# EAGLE library part AWR2944ABGALTRQ1 (library mmWAVE)
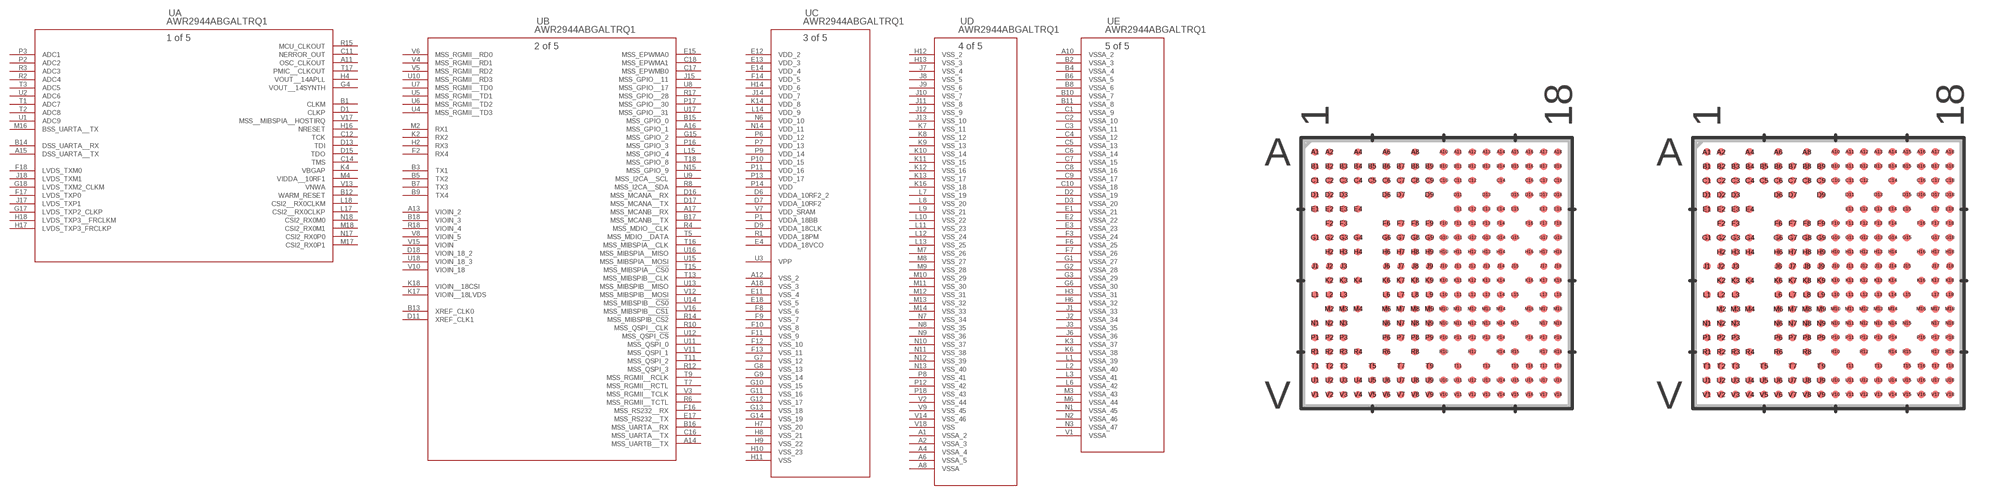
[diagram p0: symbol with the pads of FCBGA266_ALT_TEX; footprints FCBGA266_ALT_TEX, FCBGA266_ALT_TEX-M]

Designator prefix U; gates A=AWR2944ABGALTRQ1 B=AWR2944ABGALTRQ1_A C=AWR2944ABGALTRQ1_B D=AWR2944ABGALTRQ1_C E=AWR2944ABGALTRQ1_D

## AWR2944ABGALTRQ1 (COPYRIGHT: Copyright (C) 2025 Ultra Librarian. All rights reserved.; MANUFACTURER_PART_NUMBER: AWR2944ABGALTRQ1; MFR_NAME: Texas Instruments)  [FCBGA266_ALT_TEX]
A1  D:VSSA_2  pas
A2  D:VSSA_3  pas
A4  D:VSSA_4  pas
A6  D:VSSA_5  pas
A8  D:VSSA  pas
A10  E:VSSA_2  pas
A11  A:OSC_CLKOUT  out
A12  C:VSS_2  pas
A13  B:VIOIN_2  pas
A14  B:MSS_UARTB__TX  pas
A15  A:DSS_UARTA__TX  pas
A16  B:MSS_GPIO_1
A17  B:MSS_MCANB__RX  pas
A18  C:VSS_3  pas
B1  A:CLKM  pas
B2  E:VSSA_3  pas
B3  B:TX1
B4  E:VSSA_4  pas
B5  B:TX2
B6  E:VSSA_5  pas
B7  B:TX3
B8  E:VSSA_6  pas
B9  B:TX4
B10  E:VSSA_7  pas
B11  E:VSSA_8  pas
B12  A:WARM_RESET  pas
B13  B:XREF_CLK0
B14  A:DSS_UARTA__RX  pas
B15  B:MSS_GPIO_0
B16  B:MSS_UARTA__RX  pas
B17  B:MSS_MCANB__TX  pas
B18  B:VIOIN_3  pas
C1  E:VSSA_9  pas
C2  E:VSSA_10  pas
C3  E:VSSA_11  pas
C4  E:VSSA_12  pas
C5  E:VSSA_13  pas
C6  E:VSSA_14  pas
C7  E:VSSA_15  pas
C8  E:VSSA_16  pas
C9  E:VSSA_17  pas
C10  E:VSSA_18  pas
C11  A:NERROR_OUT  out
C12  A:TCK  pas
C14  A:TMS  pas
C16  B:MSS_UARTA__TX  pas
C17  B:MSS_EPWMB0  pas
C18  B:MSS_EPWMA1
D1  A:CLKP  pas
D2  E:VSSA_19  pas
D3  E:VSSA_20  pas
D6  C:VDDA_10RF2_2  pwr
D7  C:VDDA_10RF2  pwr
D9  C:VDDA_18CLK  pwr
D11  B:XREF_CLK1  pas
D13  A:TDI  pas
D15  A:TDO  pas
D16  B:MSS_MCANA__RX  pas
D17  B:MSS_MCANA__TX  pas
D18  B:VIOIN_18_2
E1  E:VSSA_21  pas
E2  E:VSSA_22  pas
E3  E:VSSA_23  pas
E4  C:VDDA_18VCO  pwr
E11  C:VSS_4  pas
E12  C:VDD_2  pwr
E13  C:VDD_3  pwr
E14  C:VDD_4  pwr
E15  B:MSS_EPWMA0
E17  B:MSS_RS232__TX
E18  C:VSS_5  pas
F2  B:RX4
F3  E:VSSA_24  pas
F6  E:VSSA_25  pas
F7  E:VSSA_26  pas
F8  C:VSS_6  pas
F9  C:VSS_7  pas
F10  C:VSS_8  pas
F11  C:VSS_9  pas
F12  C:VSS_10  pas
F13  C:VSS_11  pas
F14  C:VDD_5  pwr
F16  B:MSS_RS232__RX
F17  A:LVDS_TXP0
F18  A:LVDS_TXM0
G1  E:VSSA_27  pas
G2  E:VSSA_28  pas
G3  E:VSSA_29  pas
G4  A:VOUT__14SYNTH  out
G6  E:VSSA_30  pas
G7  C:VSS_12  pas
G8  C:VSS_13  pas
G9  C:VSS_14  pas
G10  C:VSS_15  pas
G11  C:VSS_16  pas
G12  C:VSS_17  pas
G13  C:VSS_18  pas
G14  C:VSS_19  pas
G15  B:MSS_GPIO_2
G17  A:LVDS_TXP2_CLKP
G18  A:LVDS_TXM2_CLKM
H2  B:RX3
H3  E:VSSA_31  pas
H4  A:VOUT__14APLL  out
H6  E:VSSA_32  pas
H7  C:VSS_20  pas
H8  C:VSS_21  pas
H9  C:VSS_22  pas
H10  C:VSS_23  pas
H11  C:VSS  pas
H12  D:VSS_2  pas
H13  D:VSS_3  pas
H14  C:VDD_6  pwr
H16  A:NRESET  pas
H17  A:LVDS_TXP3_FRCLKP
H18  A:LVDS_TXP3__FRCLKM
J1  E:VSSA_33  pas
J2  E:VSSA_34  pas
J3  E:VSSA_35  pas
J6  E:VSSA_36  pas
J7  D:VSS_4  pas
J8  D:VSS_5  pas
J9  D:VSS_6  pas
J10  D:VSS_7  pas
J11  D:VSS_8  pas
J12  D:VSS_9  pas
J13  D:VSS_10  pas
J14  C:VDD_7  pwr
J15  B:MSS_GPIO__11
J17  A:LVDS_TXP1
J18  A:LVDS_TXM1
K2  B:RX2
K3  E:VSSA_37  pas
K4  A:VBGAP  pas
K6  E:VSSA_38  pas
K7  D:VSS_11  pas
K8  D:VSS_12  pas
K9  D:VSS_13  pas
K10  D:VSS_14  pas
K11  D:VSS_15  pas
K12  D:VSS_16  pas
K13  D:VSS_17  pas
K14  C:VDD_8  pwr
K16  D:VSS_18  pas
K17  B:VIOIN__18LVDS
K18  B:VIOIN__18CSI
L1  E:VSSA_39  pas
L2  E:VSSA_40  pas
L3  E:VSSA_41  pas
L6  E:VSSA_42  pas
L7  D:VSS_19  pas
L8  D:VSS_20  pas
L9  D:VSS_21  pas
L10  D:VSS_22  pas
L11  D:VSS_23  pas
L12  D:VSS_24  pas
L13  D:VSS_25  pas
L14  C:VDD_9  pwr
L15  B:MSS_GPIO_4
L17  A:CSI2__RX0CLKP
L18  A:CSI2__RX0CLKM
M2  B:RX1
M3  E:VSSA_43  pas
M4  A:VIDDA__10RF1  pas
M6  E:VSSA_44  pas
M7  D:VSS_26  pas
M8  D:VSS_27  pas
M9  D:VSS_28  pas
M10  D:VSS_29  pas
M11  D:VSS_30  pas
M12  D:VSS_31  pas
M13  D:VSS_32  pas
M14  D:VSS_33  pas
M16  A:BSS_UARTA__TX  pas
M17  A:CSI2_RX0P1
M18  A:CSI2_RX0M1
N1  E:VSSA_45  pas
N2  E:VSSA_46  pas
N3  E:VSSA_47  pas
N6  C:VDD_10  pwr
N7  D:VSS_34  pas
N8  D:VSS_35  pas
N9  D:VSS_36  pas
N10  D:VSS_37  pas
N11  D:VSS_38  pas
N12  D:VSS_39  pas
N13  D:VSS_40  pas
N14  C:VDD_11  pwr
N15  B:MSS_GPIO_9
N17  A:CSI2_RX0P0
N18  A:CSI2_RX0M0
P1  C:VDDA_18BB  pwr
P2  A:ADC2
P3  A:ADC1
P6  C:VDD_12  pwr
P7  C:VDD_13  pwr
P8  D:VSS_41  pas
P9  C:VDD_14  pwr
P10  C:VDD_15  pwr
P11  C:VDD_16  pwr
P12  D:VSS_42  pas
P13  C:VDD_17  pwr
P14  C:VDD  pwr
P16  B:MSS_GPIO_3
P17  B:MSS_GPIO__30
P18  D:VSS_43  pas
R1  C:VDDA_18PM  pwr
R2  A:ADC4
R3  A:ADC3
R4  B:MSS_MDIO__CLK  pas
R6  B:MSS_RGMII__TCTL  pas
R8  B:MSS_I2CA__SDA
R10  B:MSS_QSPI__CLK  pas
R12  B:MSS_QSPI_3
R14  B:MSS_MIBSPIB_!CS2  pas
R15  A:MCU_CLKOUT  out
R17  B:MSS_GPIO__28
R18  B:VIOIN_4  pas
T1  A:ADC7
T2  A:ADC8
T3  A:ADC5
T5  B:MSS_MDIO__DATA  pas
T7  B:MSS_RGMII__RCTL  pas
T9  B:MSS_RGMII__RCLK  pas
T11  B:MSS_QSPI_2
T13  B:MSS_MIBSPIB__CLK  pas
T15  B:MSS_MIBSPIA__!CS0  pas
T16  B:MSS_MIBSPIA__CLK  pas
T17  A:PMIC__CLKOUT  out
T18  B:MSS_GPIO_8
U1  A:ADC9
U2  A:ADC6
U3  C:VPP  pwr
U4  B:MSS_RGMII__TD3
U5  B:MSS_RGMII__TD1
U6  B:MSS_RGMII__TD2
U7  B:MSS_RGMII__TD0
U8  B:MSS_GPIO__17
U9  B:MSS_I2CA__SCL
U10  B:MSS_RGMII__RD3
U11  B:MSS_QSPI_0
U12  B:MSS_QSPI_!CS  pas
U13  B:MSS_MIBSPIB__MISO  pas
U14  B:MSS_MIBSPIB__!CS0
U15  B:MSS_MIBSPIA__MOSI  pas
U16  B:MSS_MIBSPIA__MISO  pas
U17  B:MSS_GPIO__31
U18  B:VIOIN_18_3
V1  E:VSSA  pas
V2  D:VSS_44  pas
V3  B:MSS_RGMII__TCLK  pas
V4  B:MSS_RGMII__RD1
V5  B:MSS_RGMII__RD2
V6  B:MSS_RGMII__RD0
V7  C:VDD_SRAM  pwr
V8  B:VIOIN_5  pas
V9  D:VSS_45  pas
V10  B:VIOIN_18
V11  B:MSS_QSPI_1
V12  B:MSS_MIBSPIB__MOSI  pas
V13  A:VNWA  pas
V14  D:VSS_46  pas
V15  B:VIOIN  pas
V16  B:MSS_MIBSPIB__!CS1
V17  A:MSS__MIBSPIA__HOSTIRQ  pas
V18  D:VSS  pas

## AWR2944ABGALTRQ1FCBGA266_ALT_TEX-M (COPYRIGHT: Copyright (C) 2025 Ultra Librarian. All rights reserved.; MANUFACTURER_PART_NUMBER: AWR2944ABGALTRQ1; MFR_NAME: Texas Instruments)  [FCBGA266_ALT_TEX-M]
Pads as for FCBGA266_ALT_TEX

## AWR2944ABGALTRQ1FCBGA266_ALT_TEX-L (COPYRIGHT: Copyright (C) 2025 Ultra Librarian. All rights reserved.; MANUFACTURER_PART_NUMBER: AWR2944ABGALTRQ1; MFR_NAME: Texas Instruments)  [FCBGA266_ALT_TEX-L]
Pads as for FCBGA266_ALT_TEX

## Footprint FCBGA266_ALT_TEX (pad centres in mm)
smd 0.325 x 0.325: A1 -5.525,5.525; A2 -4.875,5.525; A4 -3.575,5.525; A6 -2.275,5.525; A8 -0.975,5.525; A10 0.325,5.525; A11 0.975,5.525; A12 1.625,5.525; A13 2.275,5.525; A14 2.925,5.525; A15 3.575,5.525; A16 4.225,5.525; A17 4.875,5.525; A18 5.525,5.525; B1 -5.525,4.875; B2 -4.875,4.875; B3 -4.225,4.875; B4 -3.575,4.875; B5 -2.925,4.875; B6 -2.275,4.875; B7 -1.625,4.875; B8 -0.975,4.875; B9 -0.325,4.875; B10 0.325,4.875; B11 0.975,4.875; B12 1.625,4.875; B13 2.275,4.875; B14 2.925,4.875; B15 3.575,4.875; B16 4.225,4.875; B17 4.875,4.875; B18 5.525,4.875; C1 -5.525,4.225; C2 -4.875,4.225; C3 -4.225,4.225; C4 -3.575,4.225; C5 -2.925,4.225; C6 -2.275,4.225; C7 -1.625,4.225; C8 -0.975,4.225; C9 -0.325,4.225; C10 0.325,4.225; C11 0.975,4.225; C12 1.625,4.225; C14 2.925,4.225; C16 4.225,4.225; C17 4.875,4.225; C18 5.525,4.225; D1 -5.525,3.575; D2 -4.875,3.575; D3 -4.225,3.575; D6 -2.275,3.575; D7 -1.625,3.575; D9 -0.325,3.575; D11 0.975,3.575; D13 2.275,3.575; D15 3.575,3.575; D16 4.225,3.575; D17 4.875,3.575; D18 5.525,3.575; E1 -5.525,2.925; E2 -4.875,2.925; E3 -4.225,2.925; E4 -3.575,2.925; E11 0.975,2.925; E12 1.625,2.925; E13 2.275,2.925; E14 2.925,2.925; E15 3.575,2.925; E17 4.875,2.925; E18 5.525,2.925; F2 -4.875,2.275; F3 -4.225,2.275; F6 -2.275,2.275; F7 -1.625,2.275; F8 -0.975,2.275; F9 -0.325,2.275; F10 0.325,2.275; F11 0.975,2.275; F12 1.625,2.275; F13 2.275,2.275; F14 2.925,2.275; F16 4.225,2.275; F17 4.875,2.275; F18 5.525,2.275; G1 -5.525,1.625; G2 -4.875,1.625; G3 -4.225,1.625; G4 -3.575,1.625; G6 -2.275,1.625; G7 -1.625,1.625; G8 -0.975,1.625; G9 -0.325,1.625; G10 0.325,1.625; G11 0.975,1.625; G12 1.625,1.625; G13 2.275,1.625; G14 2.925,1.625; G15 3.575,1.625; G17 4.875,1.625; G18 5.525,1.625; H2 -4.875,0.975; H3 -4.225,0.975; H4 -3.575,0.975; H6 -2.275,0.975; H7 -1.625,0.975; H8 -0.975,0.975; H9 -0.325,0.975; H10 0.325,0.975; H11 0.975,0.975; H12 1.625,0.975; H13 2.275,0.975; H14 2.925,0.975; H16 4.225,0.975; H17 4.875,0.975; H18 5.525,0.975; J1 -5.525,0.325; J2 -4.875,0.325; J3 -4.225,0.325; J6 -2.275,0.325; J7 -1.625,0.325; J8 -0.975,0.325; J9 -0.325,0.325; J10 0.325,0.325; J11 0.975,0.325; J12 1.625,0.325; J13 2.275,0.325; J14 2.925,0.325; J15 3.575,0.325; J17 4.875,0.325; J18 5.525,0.325; K2 -4.875,-0.325; K3 -4.225,-0.325; K4 -3.575,-0.325; K6 -2.275,-0.325; K7 -1.625,-0.325; K8 -0.975,-0.325; K9 -0.325,-0.325; K10 0.325,-0.325; K11 0.975,-0.325; K12 1.625,-0.325; K13 2.275,-0.325; K14 2.925,-0.325; K16 4.225,-0.325; K17 4.875,-0.325; K18 5.525,-0.325; L1 -5.525,-0.975; L2 -4.875,-0.975; L3 -4.225,-0.975; L6 -2.275,-0.975; L7 -1.625,-0.975; L8 -0.975,-0.975; L9 -0.325,-0.975; L10 0.325,-0.975; L11 0.975,-0.975; L12 1.625,-0.975; L13 2.275,-0.975; L14 2.925,-0.975; L15 3.575,-0.975; L17 4.875,-0.975; L18 5.525,-0.975; M2 -4.875,-1.625; M3 -4.225,-1.625; M4 -3.575,-1.625; M6 -2.275,-1.625; M7 -1.625,-1.625; M8 -0.975,-1.625; M9 -0.325,-1.625; M10 0.325,-1.625; M11 0.975,-1.625; M12 1.625,-1.625; M13 2.275,-1.625; M14 2.925,-1.625; M16 4.225,-1.625; M17 4.875,-1.625; M18 5.525,-1.625; N1 -5.525,-2.275; N2 -4.875,-2.275; N3 -4.225,-2.275; N6 -2.275,-2.275; N7 -1.625,-2.275; N8 -0.975,-2.275; N9 -0.325,-2.275; N10 0.325,-2.275; N11 0.975,-2.275; N12 1.625,-2.275; N13 2.275,-2.275; N14 2.925,-2.275; N15 3.575,-2.275; N17 4.875,-2.275; N18 5.525,-2.275; P1 -5.525,-2.925; P2 -4.875,-2.925; P3 -4.225,-2.925; P6 -2.275,-2.925; P7 -1.625,-2.925; P8 -0.975,-2.925; P9 -0.325,-2.925; P10 0.325,-2.925; P11 0.975,-2.925; P12 1.625,-2.925; P13 2.275,-2.925; P14 2.925,-2.925; P16 4.225,-2.925; P17 4.875,-2.925; P18 5.525,-2.925; R1 -5.525,-3.575; R2 -4.875,-3.575; R3 -4.225,-3.575; R4 -3.575,-3.575; R6 -2.275,-3.575; R8 -0.975,-3.575; R10 0.325,-3.575; R12 1.625,-3.575; R14 2.925,-3.575; R15 3.575,-3.575; R17 4.875,-3.575; R18 5.525,-3.575; T1 -5.525,-4.225; T2 -4.875,-4.225; T3 -4.225,-4.225; T5 -2.925,-4.225; T7 -1.625,-4.225; T9 -0.325,-4.225; T11 0.975,-4.225; T13 2.275,-4.225; T15 3.575,-4.225; T16 4.225,-4.225; T17 4.875,-4.225; T18 5.525,-4.225; U1 -5.525,-4.875; U2 -4.875,-4.875; U3 -4.225,-4.875; U4 -3.575,-4.875; U5 -2.925,-4.875; U6 -2.275,-4.875; U7 -1.625,-4.875; U8 -0.975,-4.875; U9 -0.325,-4.875; U10 0.325,-4.875; U11 0.975,-4.875; U12 1.625,-4.875; U13 2.275,-4.875; U14 2.925,-4.875; U15 3.575,-4.875; U16 4.225,-4.875; U17 4.875,-4.875; U18 5.525,-4.875; V1 -5.525,-5.525; V2 -4.875,-5.525; V3 -4.225,-5.525; V4 -3.575,-5.525; V5 -2.925,-5.525; V6 -2.275,-5.525; V7 -1.625,-5.525; V8 -0.975,-5.525; V9 -0.325,-5.525; V10 0.325,-5.525; V11 0.975,-5.525; V12 1.625,-5.525; V13 2.275,-5.525; V14 2.925,-5.525; V15 3.575,-5.525; V16 4.225,-5.525; V17 4.875,-5.525; V18 5.525,-5.525

## Footprint FCBGA266_ALT_TEX-M (pad centres in mm)
smd 0.345 x 0.345: A1 -5.525,5.525; A2 -4.875,5.525; A4 -3.575,5.525; A6 -2.275,5.525; A8 -0.975,5.525; A10 0.325,5.525; A11 0.975,5.525; A12 1.625,5.525; A13 2.275,5.525; A14 2.925,5.525; A15 3.575,5.525; A16 4.225,5.525; A17 4.875,5.525; A18 5.525,5.525; B1 -5.525,4.875; B2 -4.875,4.875; B3 -4.225,4.875; B4 -3.575,4.875; B5 -2.925,4.875; B6 -2.275,4.875; B7 -1.625,4.875; B8 -0.975,4.875; B9 -0.325,4.875; B10 0.325,4.875; B11 0.975,4.875; B12 1.625,4.875; B13 2.275,4.875; B14 2.925,4.875; B15 3.575,4.875; B16 4.225,4.875; B17 4.875,4.875; B18 5.525,4.875; C1 -5.525,4.225; C2 -4.875,4.225; C3 -4.225,4.225; C4 -3.575,4.225; C5 -2.925,4.225; C6 -2.275,4.225; C7 -1.625,4.225; C8 -0.975,4.225; C9 -0.325,4.225; C10 0.325,4.225; C11 0.975,4.225; C12 1.625,4.225; C14 2.925,4.225; C16 4.225,4.225; C17 4.875,4.225; C18 5.525,4.225; D1 -5.525,3.575; D2 -4.875,3.575; D3 -4.225,3.575; D6 -2.275,3.575; D7 -1.625,3.575; D9 -0.325,3.575; D11 0.975,3.575; D13 2.275,3.575; D15 3.575,3.575; D16 4.225,3.575; D17 4.875,3.575; D18 5.525,3.575; E1 -5.525,2.925; E2 -4.875,2.925; E3 -4.225,2.925; E4 -3.575,2.925; E11 0.975,2.925; E12 1.625,2.925; E13 2.275,2.925; E14 2.925,2.925; E15 3.575,2.925; E17 4.875,2.925; E18 5.525,2.925; F2 -4.875,2.275; F3 -4.225,2.275; F6 -2.275,2.275; F7 -1.625,2.275; F8 -0.975,2.275; F9 -0.325,2.275; F10 0.325,2.275; F11 0.975,2.275; F12 1.625,2.275; F13 2.275,2.275; F14 2.925,2.275; F16 4.225,2.275; F17 4.875,2.275; F18 5.525,2.275; G1 -5.525,1.625; G2 -4.875,1.625; G3 -4.225,1.625; G4 -3.575,1.625; G6 -2.275,1.625; G7 -1.625,1.625; G8 -0.975,1.625; G9 -0.325,1.625; G10 0.325,1.625; G11 0.975,1.625; G12 1.625,1.625; G13 2.275,1.625; G14 2.925,1.625; G15 3.575,1.625; G17 4.875,1.625; G18 5.525,1.625; H2 -4.875,0.975; H3 -4.225,0.975; H4 -3.575,0.975; H6 -2.275,0.975; H7 -1.625,0.975; H8 -0.975,0.975; H9 -0.325,0.975; H10 0.325,0.975; H11 0.975,0.975; H12 1.625,0.975; H13 2.275,0.975; H14 2.925,0.975; H16 4.225,0.975; H17 4.875,0.975; H18 5.525,0.975; J1 -5.525,0.325; J2 -4.875,0.325; J3 -4.225,0.325; J6 -2.275,0.325; J7 -1.625,0.325; J8 -0.975,0.325; J9 -0.325,0.325; J10 0.325,0.325; J11 0.975,0.325; J12 1.625,0.325; J13 2.275,0.325; J14 2.925,0.325; J15 3.575,0.325; J17 4.875,0.325; J18 5.525,0.325; K2 -4.875,-0.325; K3 -4.225,-0.325; K4 -3.575,-0.325; K6 -2.275,-0.325; K7 -1.625,-0.325; K8 -0.975,-0.325; K9 -0.325,-0.325; K10 0.325,-0.325; K11 0.975,-0.325; K12 1.625,-0.325; K13 2.275,-0.325; K14 2.925,-0.325; K16 4.225,-0.325; K17 4.875,-0.325; K18 5.525,-0.325; L1 -5.525,-0.975; L2 -4.875,-0.975; L3 -4.225,-0.975; L6 -2.275,-0.975; L7 -1.625,-0.975; L8 -0.975,-0.975; L9 -0.325,-0.975; L10 0.325,-0.975; L11 0.975,-0.975; L12 1.625,-0.975; L13 2.275,-0.975; L14 2.925,-0.975; L15 3.575,-0.975; L17 4.875,-0.975; L18 5.525,-0.975; M2 -4.875,-1.625; M3 -4.225,-1.625; M4 -3.575,-1.625; M6 -2.275,-1.625; M7 -1.625,-1.625; M8 -0.975,-1.625; M9 -0.325,-1.625; M10 0.325,-1.625; M11 0.975,-1.625; M12 1.625,-1.625; M13 2.275,-1.625; M14 2.925,-1.625; M16 4.225,-1.625; M17 4.875,-1.625; M18 5.525,-1.625; N1 -5.525,-2.275; N2 -4.875,-2.275; N3 -4.225,-2.275; N6 -2.275,-2.275; N7 -1.625,-2.275; N8 -0.975,-2.275; N9 -0.325,-2.275; N10 0.325,-2.275; N11 0.975,-2.275; N12 1.625,-2.275; N13 2.275,-2.275; N14 2.925,-2.275; N15 3.575,-2.275; N17 4.875,-2.275; N18 5.525,-2.275; P1 -5.525,-2.925; P2 -4.875,-2.925; P3 -4.225,-2.925; P6 -2.275,-2.925; P7 -1.625,-2.925; P8 -0.975,-2.925; P9 -0.325,-2.925; P10 0.325,-2.925; P11 0.975,-2.925; P12 1.625,-2.925; P13 2.275,-2.925; P14 2.925,-2.925; P16 4.225,-2.925; P17 4.875,-2.925; P18 5.525,-2.925; R1 -5.525,-3.575; R2 -4.875,-3.575; R3 -4.225,-3.575; R4 -3.575,-3.575; R6 -2.275,-3.575; R8 -0.975,-3.575; R10 0.325,-3.575; R12 1.625,-3.575; R14 2.925,-3.575; R15 3.575,-3.575; R17 4.875,-3.575; R18 5.525,-3.575; T1 -5.525,-4.225; T2 -4.875,-4.225; T3 -4.225,-4.225; T5 -2.925,-4.225; T7 -1.625,-4.225; T9 -0.325,-4.225; T11 0.975,-4.225; T13 2.275,-4.225; T15 3.575,-4.225; T16 4.225,-4.225; T17 4.875,-4.225; T18 5.525,-4.225; U1 -5.525,-4.875; U2 -4.875,-4.875; U3 -4.225,-4.875; U4 -3.575,-4.875; U5 -2.925,-4.875; U6 -2.275,-4.875; U7 -1.625,-4.875; U8 -0.975,-4.875; U9 -0.325,-4.875; U10 0.325,-4.875; U11 0.975,-4.875; U12 1.625,-4.875; U13 2.275,-4.875; U14 2.925,-4.875; U15 3.575,-4.875; U16 4.225,-4.875; U17 4.875,-4.875; U18 5.525,-4.875; V1 -5.525,-5.525; V2 -4.875,-5.525; V3 -4.225,-5.525; V4 -3.575,-5.525; V5 -2.925,-5.525; V6 -2.275,-5.525; V7 -1.625,-5.525; V8 -0.975,-5.525; V9 -0.325,-5.525; V10 0.325,-5.525; V11 0.975,-5.525; V12 1.625,-5.525; V13 2.275,-5.525; V14 2.925,-5.525; V15 3.575,-5.525; V16 4.225,-5.525; V17 4.875,-5.525; V18 5.525,-5.525

## Footprint FCBGA266_ALT_TEX-L (pad centres in mm)
smd 0.305 x 0.305: A1 -5.525,5.525; A2 -4.875,5.525; A4 -3.575,5.525; A6 -2.275,5.525; A8 -0.975,5.525; A10 0.325,5.525; A11 0.975,5.525; A12 1.625,5.525; A13 2.275,5.525; A14 2.925,5.525; A15 3.575,5.525; A16 4.225,5.525; A17 4.875,5.525; A18 5.525,5.525; B1 -5.525,4.875; B2 -4.875,4.875; B3 -4.225,4.875; B4 -3.575,4.875; B5 -2.925,4.875; B6 -2.275,4.875; B7 -1.625,4.875; B8 -0.975,4.875; B9 -0.325,4.875; B10 0.325,4.875; B11 0.975,4.875; B12 1.625,4.875; B13 2.275,4.875; B14 2.925,4.875; B15 3.575,4.875; B16 4.225,4.875; B17 4.875,4.875; B18 5.525,4.875; C1 -5.525,4.225; C2 -4.875,4.225; C3 -4.225,4.225; C4 -3.575,4.225; C5 -2.925,4.225; C6 -2.275,4.225; C7 -1.625,4.225; C8 -0.975,4.225; C9 -0.325,4.225; C10 0.325,4.225; C11 0.975,4.225; C12 1.625,4.225; C14 2.925,4.225; C16 4.225,4.225; C17 4.875,4.225; C18 5.525,4.225; D1 -5.525,3.575; D2 -4.875,3.575; D3 -4.225,3.575; D6 -2.275,3.575; D7 -1.625,3.575; D9 -0.325,3.575; D11 0.975,3.575; D13 2.275,3.575; D15 3.575,3.575; D16 4.225,3.575; D17 4.875,3.575; D18 5.525,3.575; E1 -5.525,2.925; E2 -4.875,2.925; E3 -4.225,2.925; E4 -3.575,2.925; E11 0.975,2.925; E12 1.625,2.925; E13 2.275,2.925; E14 2.925,2.925; E15 3.575,2.925; E17 4.875,2.925; E18 5.525,2.925; F2 -4.875,2.275; F3 -4.225,2.275; F6 -2.275,2.275; F7 -1.625,2.275; F8 -0.975,2.275; F9 -0.325,2.275; F10 0.325,2.275; F11 0.975,2.275; F12 1.625,2.275; F13 2.275,2.275; F14 2.925,2.275; F16 4.225,2.275; F17 4.875,2.275; F18 5.525,2.275; G1 -5.525,1.625; G2 -4.875,1.625; G3 -4.225,1.625; G4 -3.575,1.625; G6 -2.275,1.625; G7 -1.625,1.625; G8 -0.975,1.625; G9 -0.325,1.625; G10 0.325,1.625; G11 0.975,1.625; G12 1.625,1.625; G13 2.275,1.625; G14 2.925,1.625; G15 3.575,1.625; G17 4.875,1.625; G18 5.525,1.625; H2 -4.875,0.975; H3 -4.225,0.975; H4 -3.575,0.975; H6 -2.275,0.975; H7 -1.625,0.975; H8 -0.975,0.975; H9 -0.325,0.975; H10 0.325,0.975; H11 0.975,0.975; H12 1.625,0.975; H13 2.275,0.975; H14 2.925,0.975; H16 4.225,0.975; H17 4.875,0.975; H18 5.525,0.975; J1 -5.525,0.325; J2 -4.875,0.325; J3 -4.225,0.325; J6 -2.275,0.325; J7 -1.625,0.325; J8 -0.975,0.325; J9 -0.325,0.325; J10 0.325,0.325; J11 0.975,0.325; J12 1.625,0.325; J13 2.275,0.325; J14 2.925,0.325; J15 3.575,0.325; J17 4.875,0.325; J18 5.525,0.325; K2 -4.875,-0.325; K3 -4.225,-0.325; K4 -3.575,-0.325; K6 -2.275,-0.325; K7 -1.625,-0.325; K8 -0.975,-0.325; K9 -0.325,-0.325; K10 0.325,-0.325; K11 0.975,-0.325; K12 1.625,-0.325; K13 2.275,-0.325; K14 2.925,-0.325; K16 4.225,-0.325; K17 4.875,-0.325; K18 5.525,-0.325; L1 -5.525,-0.975; L2 -4.875,-0.975; L3 -4.225,-0.975; L6 -2.275,-0.975; L7 -1.625,-0.975; L8 -0.975,-0.975; L9 -0.325,-0.975; L10 0.325,-0.975; L11 0.975,-0.975; L12 1.625,-0.975; L13 2.275,-0.975; L14 2.925,-0.975; L15 3.575,-0.975; L17 4.875,-0.975; L18 5.525,-0.975; M2 -4.875,-1.625; M3 -4.225,-1.625; M4 -3.575,-1.625; M6 -2.275,-1.625; M7 -1.625,-1.625; M8 -0.975,-1.625; M9 -0.325,-1.625; M10 0.325,-1.625; M11 0.975,-1.625; M12 1.625,-1.625; M13 2.275,-1.625; M14 2.925,-1.625; M16 4.225,-1.625; M17 4.875,-1.625; M18 5.525,-1.625; N1 -5.525,-2.275; N2 -4.875,-2.275; N3 -4.225,-2.275; N6 -2.275,-2.275; N7 -1.625,-2.275; N8 -0.975,-2.275; N9 -0.325,-2.275; N10 0.325,-2.275; N11 0.975,-2.275; N12 1.625,-2.275; N13 2.275,-2.275; N14 2.925,-2.275; N15 3.575,-2.275; N17 4.875,-2.275; N18 5.525,-2.275; P1 -5.525,-2.925; P2 -4.875,-2.925; P3 -4.225,-2.925; P6 -2.275,-2.925; P7 -1.625,-2.925; P8 -0.975,-2.925; P9 -0.325,-2.925; P10 0.325,-2.925; P11 0.975,-2.925; P12 1.625,-2.925; P13 2.275,-2.925; P14 2.925,-2.925; P16 4.225,-2.925; P17 4.875,-2.925; P18 5.525,-2.925; R1 -5.525,-3.575; R2 -4.875,-3.575; R3 -4.225,-3.575; R4 -3.575,-3.575; R6 -2.275,-3.575; R8 -0.975,-3.575; R10 0.325,-3.575; R12 1.625,-3.575; R14 2.925,-3.575; R15 3.575,-3.575; R17 4.875,-3.575; R18 5.525,-3.575; T1 -5.525,-4.225; T2 -4.875,-4.225; T3 -4.225,-4.225; T5 -2.925,-4.225; T7 -1.625,-4.225; T9 -0.325,-4.225; T11 0.975,-4.225; T13 2.275,-4.225; T15 3.575,-4.225; T16 4.225,-4.225; T17 4.875,-4.225; T18 5.525,-4.225; U1 -5.525,-4.875; U2 -4.875,-4.875; U3 -4.225,-4.875; U4 -3.575,-4.875; U5 -2.925,-4.875; U6 -2.275,-4.875; U7 -1.625,-4.875; U8 -0.975,-4.875; U9 -0.325,-4.875; U10 0.325,-4.875; U11 0.975,-4.875; U12 1.625,-4.875; U13 2.275,-4.875; U14 2.925,-4.875; U15 3.575,-4.875; U16 4.225,-4.875; U17 4.875,-4.875; U18 5.525,-4.875; V1 -5.525,-5.525; V2 -4.875,-5.525; V3 -4.225,-5.525; V4 -3.575,-5.525; V5 -2.925,-5.525; V6 -2.275,-5.525; V7 -1.625,-5.525; V8 -0.975,-5.525; V9 -0.325,-5.525; V10 0.325,-5.525; V11 0.975,-5.525; V12 1.625,-5.525; V13 2.275,-5.525; V14 2.925,-5.525; V15 3.575,-5.525; V16 4.225,-5.525; V17 4.875,-5.525; V18 5.525,-5.525